# Altium integrated library Analog Devices Switches and Multiplexers Analog Switches.IntLib: 575 symbols (part 4 of 23)
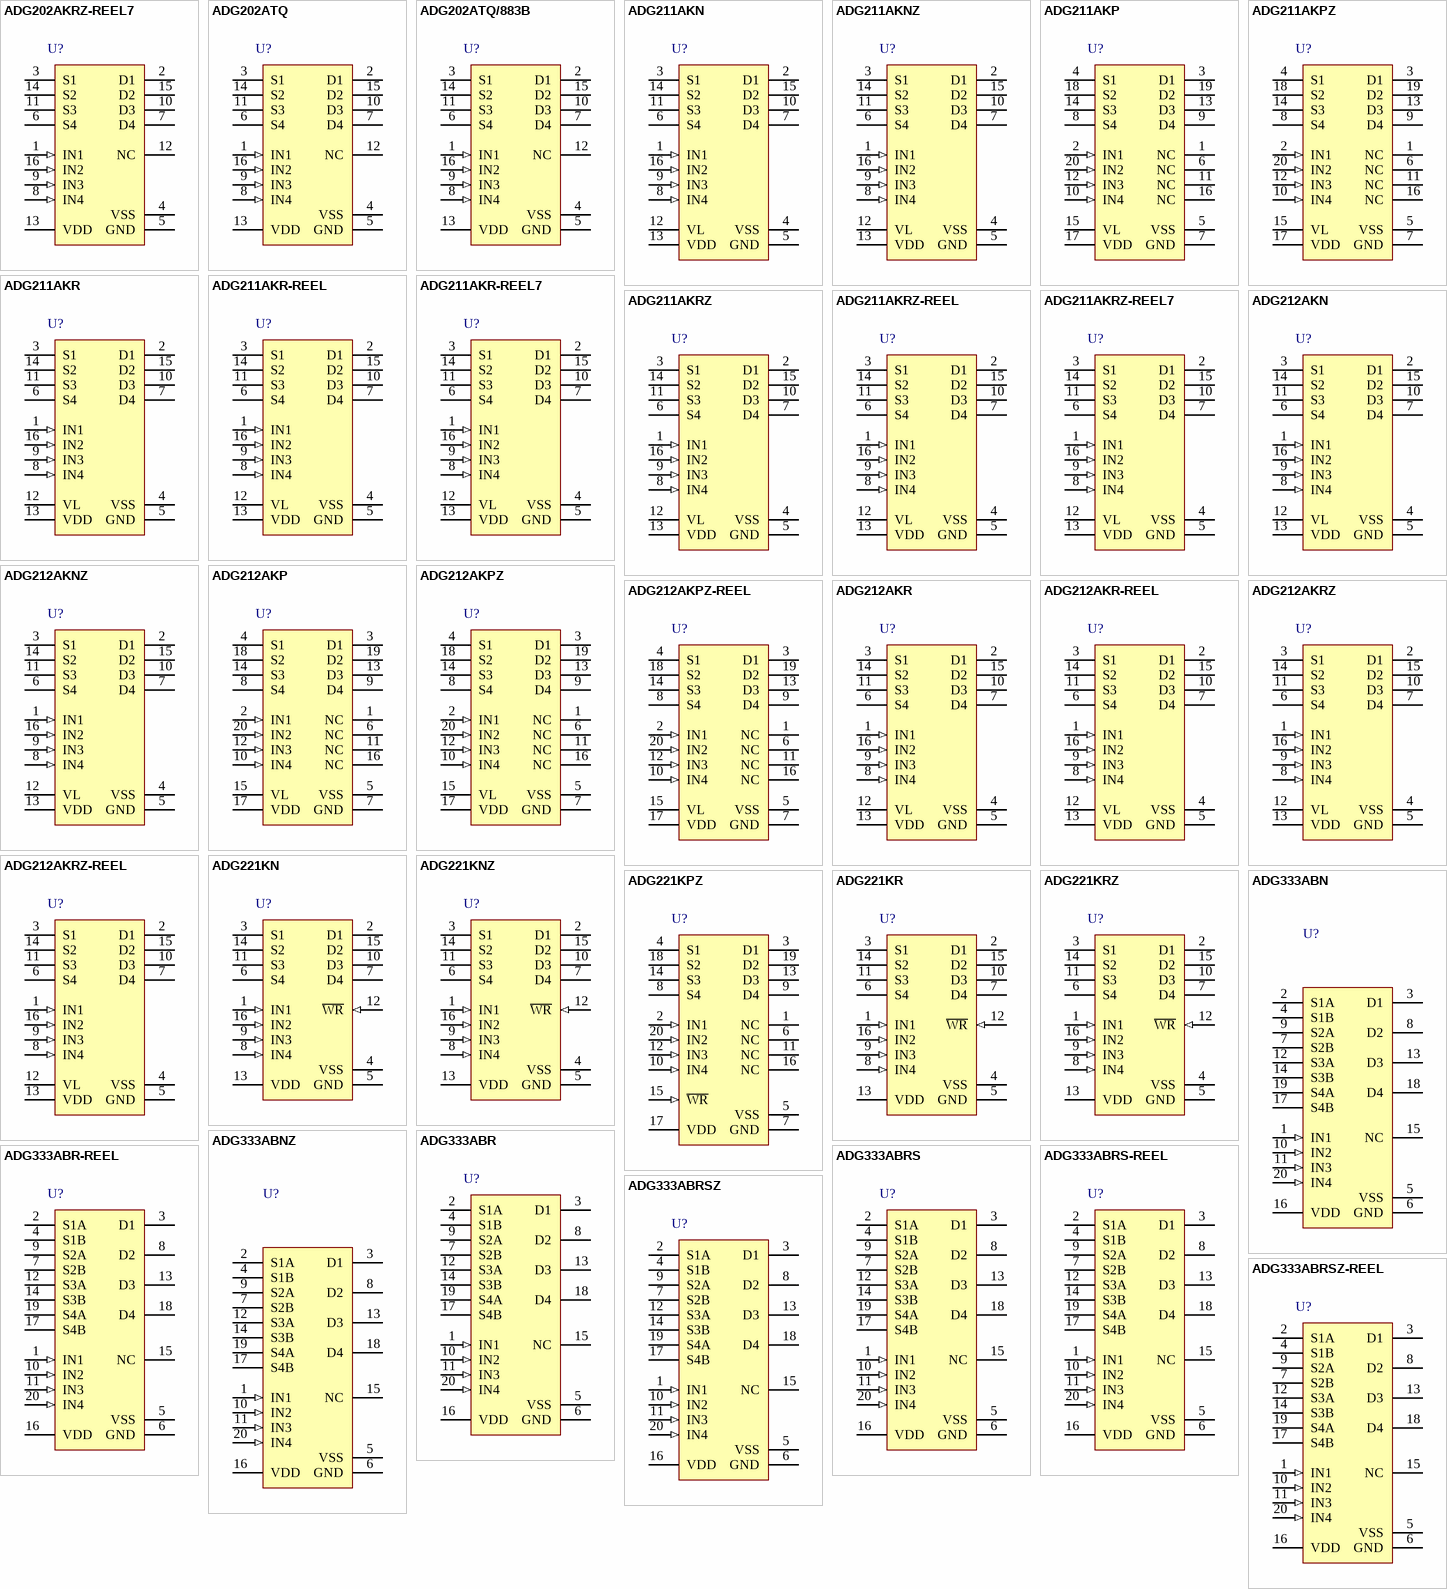
[diagram p18: symbols ADG202AKRZ-REEL7 to ADG333ABRSZ-REEL]

## ADG221KRZ
designator U?
LC2MOS Quad SPST Switches, 60 Ohm Ron, 16-pin SOIC (R-16), Tube; Manufacturer: Analog Devices; PartNumber: ADG221KRZ; # Sw Functions: 4; Max Neg Supply: -15V; Max Pos Supply: +15V; Ron (ohms): 60; DatasheetVersion: Rev. B; PackageVersion: 060606-A, 06/2006; PackageReference: R-16; PackageDescription: 16-Pin Standard Small Outline Package, Body 9.9 x 3.9 mm, Pitch 1.27 mm; Supplier 1: Digi-Key; Supplier Part Number 1: ADG221KRZ-ND; Supplier 2: Farnell; Supplier Part Number 2: 1438702; Supplier 3: Newark; Supplier Part Number 3: 59K1195; Supplier 4: Mouser; Supplier Part Number 4: 584-ADG221KRZ; Configuration: SPST; Packing: Tube; Mounting Technology: Surface Mount; Code_JEDEC: MS-012-AC; ComponentLink1Description: Manufacturer URL; ComponentLink1URL: http://www.analog.com/en/index.html; ComponentLink2Description: Datasheet; ComponentLink2URL: http://www.analog.com/static/imported-files/data_sheets/ADG221_222.pdf; ComponentLink3Description: Package Specification; ComponentLink3URL: http://www.analog.com/static/imported-files/packages/PKG_PDF/SOIC_Narrow%20(R)/R_16.pdf
footprint ADI-R-16_N (SOIC, 16-Leads, Body 9.9x3.9mm, Pitch 1.27mm, IPC Medium Density)
footprint ADI-R-16_L (SOIC, 16-Leads, Body 9.9x3.9mm, Pitch 1.27mm, IPC High Density)
footprint ADI-R-16_M (SOIC, 16-Leads, Body 9.9x3.9mm, Pitch 1.27mm, IPC Low Density)
pins: 1 IN1 (in) "Logic Control Input.", 2 D1 "Drain Terminal. Can be an input or output.", 3 S1 "Source Terminal. Can be an input or output.", 4 VSS (power) "Most Negative Power Supply Potential.", 5 GND (power) "Ground (0 V) Reference.", 6 S4 "Source Terminal. Can be an input or output.", 7 D4 "Drain Terminal. Can be an input or output.", 8 IN4 (in) "Logic Control Input.", 9 IN3 (in) "Logic Control Input.", 10 D3 "Drain Terminal. Can be an input or output.", 11 S3 "Source Terminal. Can be an input or output.", 12 ~{WR} (in), 13 VDD (power) "Most Positive Power Supply Potential.", 14 S2 "Source Terminal. Can be an input or output.", 15 D2 "Drain Terminal. Can be an input or output.", 16 IN2 (in) "Logic Control Input."

## ADG333ABN
designator U?
Quad SPDT Switches, 20 Ohm Ron, 20-pin DIP (N-20), Tube; Manufacturer: Analog Devices; PartNumber: ADG333ABN; # Sw Functions: 4; Max Neg Supply: -20V; Max Pos Supply: +20V; Ron (ohms): 20, 35; t ON: 90ns, 110ns; DatasheetVersion: Rev. A; PackageVersion: 070706-A, 07/2006; PackageReference: N-20; PackageDescription: 20-Pin Plastic Dual In-Line Package, Body 26.16 X 6.35 mm, Pitch 2.54 mm; Supplier 1: Digi-Key; Supplier Part Number 1: ADG333ABN-ND; Supplier 2: Mouser; Supplier Part Number 2: 584-ADG333ABN; Configuration: SPDT; Packing: Tube; Mounting Technology: Through Hole; Code_JEDEC: MS-001; ComponentLink1Description: Manufacturer URL; ComponentLink1URL: http://www.analog.com/en/index.html; ComponentLink2Description: Datasheet; ComponentLink2URL: http://www.analog.com/static/imported-files/data_sheets/ADG333A.pdf; ComponentLink3Description: Package Specification; ComponentLink3URL: http://www.analog.com/static/imported-files/packages/50601349676519N_20.pdf
footprint ADI-N-20 (DIP, 20-Leads, Body 25.9x6.6mm, Pitch 2.54mm)
pins: 1 IN1 (in) "Logic Control Input.", 2 S1A "Source Terminal. Can be an input or output.", 3 D1 "Drain Terminal. Can be an input or output.", 4 S1B "Source Terminal. Can be an input or output.", 5 VSS (power) "Most Negative Power Supply Potential in Dual Supplies. In single-supply applications, it can be connected to ground.", 6 GND (power) "Ground (0 V) Reference.", 7 S2B "Source Terminal. Can be an input or output.", 8 D2 "Drain Terminal. Can be an input or output.", 9 S2A "Source Terminal. Can be an input or output.", 10 IN2 (in) "Logic Control Input.", 11 IN3 (in) "Logic Control Input.", 12 S3A "Source Terminal. Can be an input or output.", 13 D3 "Drain Terminal. Can be an input or output.", 14 S3B "Source Terminal. Can be an input or output.", 15 NC "No Connect.", 16 VDD (power) "Most Positive Power Supply Potential.", 17 S4B "Source Terminal. Can be an input or output.", 18 D4 "Drain Terminal. Can be an input or output.", 19 S4A "Source Terminal. Can be an input or output.", 20 IN4 (in) "Logic Control Input."

## ADG333ABNZ
designator U?
Quad SPDT Switches, 20 Ohm Ron, 20-pin DIP (N-20), Tube; Manufacturer: Analog Devices; PartNumber: ADG333ABNZ; # Sw Functions: 4; Max Neg Supply: -20V; Max Pos Supply: +20V; Ron (ohms): 20, 35; t ON: 90ns, 110ns; DatasheetVersion: Rev. A; PackageVersion: 070706-A, 07/2006; PackageReference: N-20; PackageDescription: 20-Pin Plastic Dual In-Line Package, Body 26.16 X 6.35 mm, Pitch 2.54 mm; Supplier 1: Digi-Key; Supplier Part Number 1: ADG333ABNZ-ND; Supplier 2: Farnell; Supplier Part Number 2: 1438703; Supplier 3: Newark; Supplier Part Number 3: 59K1221; Supplier 4: Mouser; Supplier Part Number 4: 584-ADG333ABNZ; Configuration: SPDT; Packing: Tube; Mounting Technology: Through Hole; Code_JEDEC: MS-001; ComponentLink1Description: Manufacturer URL; ComponentLink1URL: http://www.analog.com/en/index.html; ComponentLink2Description: Datasheet; ComponentLink2URL: http://www.analog.com/static/imported-files/data_sheets/ADG333A.pdf; ComponentLink3Description: Package Specification; ComponentLink3URL: http://www.analog.com/static/imported-files/packages/50601349676519N_20.pdf
footprint ADI-N-20 (DIP, 20-Leads, Body 25.9x6.6mm, Pitch 2.54mm)
pins: 1 IN1 (in) "Logic Control Input.", 2 S1A "Source Terminal. Can be an input or output.", 3 D1 "Drain Terminal. Can be an input or output.", 4 S1B "Source Terminal. Can be an input or output.", 5 VSS (power) "Most Negative Power Supply Potential in Dual Supplies. In single-supply applications, it can be connected to ground.", 6 GND (power) "Ground (0 V) Reference.", 7 S2B "Source Terminal. Can be an input or output.", 8 D2 "Drain Terminal. Can be an input or output.", 9 S2A "Source Terminal. Can be an input or output.", 10 IN2 (in) "Logic Control Input.", 11 IN3 (in) "Logic Control Input.", 12 S3A "Source Terminal. Can be an input or output.", 13 D3 "Drain Terminal. Can be an input or output.", 14 S3B "Source Terminal. Can be an input or output.", 15 NC "No Connect.", 16 VDD (power) "Most Positive Power Supply Potential.", 17 S4B "Source Terminal. Can be an input or output.", 18 D4 "Drain Terminal. Can be an input or output.", 19 S4A "Source Terminal. Can be an input or output.", 20 IN4 (in) "Logic Control Input."

## ADG333ABR
designator U?
Quad SPDT Switches, 20 Ohm Ron, 20-pin SOIC (RW-20), Tube; Manufacturer: Analog Devices; PartNumber: ADG333ABR; # Sw Functions: 4; Max Neg Supply: -20V; Max Pos Supply: +20V; Ron (ohms): 20, 35; t ON: 90ns, 110ns; DatasheetVersion: Rev. A; PackageVersion: 060706-A, 06/2006; PackageReference: RW-20; PackageDescription: 20-Pin Standard Small Outline Package, Body 12.8 x 7.5 mm, Pitch 1.27 mm; Supplier 1: Digi-Key; Supplier Part Number 1: ADG333ABR-ND; Supplier 2: Mouser; Supplier Part Number 2: 584-ADG333ABR; Configuration: SPDT; Packing: Tube; Mounting Technology: Surface Mount; Code_JEDEC: MS-013-AC; ComponentLink1Description: Manufacturer URL; ComponentLink1URL: http://www.analog.com/en/index.html; ComponentLink2Description: Datasheet; ComponentLink2URL: http://www.analog.com/static/imported-files/data_sheets/ADG333A.pdf; ComponentLink3Description: Package Specification; ComponentLink3URL: http://www.analog.com/static/imported-files/packages/233848RW_20.pdf
footprint ADI-RW-20_N (SOIC, 20-Leads, Body 12.8x7.5mm, Pitch 1.27mm, IPC Medium Density)
footprint ADI-RW-20_L (SOIC, 20-Leads, Body 12.8x7.5mm, Pitch 1.27mm, IPC High Density)
footprint ADI-RW-20_M (SOIC, 20-Leads, Body 12.8x7.5mm, Pitch 1.27mm, IPC Low Density)
pins: 1 IN1 (in) "Logic Control Input.", 2 S1A "Source Terminal. Can be an input or output.", 3 D1 "Drain Terminal. Can be an input or output.", 4 S1B "Source Terminal. Can be an input or output.", 5 VSS (power) "Most Negative Power Supply Potential in Dual Supplies. In single-supply applications, it can be connected to ground.", 6 GND (power) "Ground (0 V) Reference.", 7 S2B "Source Terminal. Can be an input or output.", 8 D2 "Drain Terminal. Can be an input or output.", 9 S2A "Source Terminal. Can be an input or output.", 10 IN2 (in) "Logic Control Input.", 11 IN3 (in) "Logic Control Input.", 12 S3A "Source Terminal. Can be an input or output.", 13 D3 "Drain Terminal. Can be an input or output.", 14 S3B "Source Terminal. Can be an input or output.", 15 NC "No Connect.", 16 VDD (power) "Most Positive Power Supply Potential.", 17 S4B "Source Terminal. Can be an input or output.", 18 D4 "Drain Terminal. Can be an input or output.", 19 S4A "Source Terminal. Can be an input or output.", 20 IN4 (in) "Logic Control Input."

## ADG333ABR-REEL
designator U?
Quad SPDT Switches, 20 Ohm Ron, 20-pin SOIC (RW-20), Reel; Manufacturer: Analog Devices; PartNumber: ADG333ABR-REEL; # Sw Functions: 4; Max Neg Supply: -20V; Max Pos Supply: +20V; Ron (ohms): 20, 35; t ON: 90ns, 110ns; DatasheetVersion: Rev. A; PackageVersion: 060706-A, 06/2006; PackageReference: RW-20; PackageDescription: 20-Pin Standard Small Outline Package, Body 12.8 x 7.5 mm, Pitch 1.27 mm; Supplier 1: Digi-Key; Supplier Part Number 1: ADG333ABR-REEL-ND; Supplier 2: Newark; Supplier Part Number 2: 09B7005; Supplier 3: Mouser; Supplier Part Number 3: 584-ADG333ABR-R; Configuration: SPDT; Packing: Reel; Mounting Technology: Surface Mount; Code_JEDEC: MS-013-AC; ComponentLink1Description: Manufacturer URL; ComponentLink1URL: http://www.analog.com/en/index.html; ComponentLink2Description: Datasheet; ComponentLink2URL: http://www.analog.com/static/imported-files/data_sheets/ADG333A.pdf; ComponentLink3Description: Package Specification; ComponentLink3URL: http://www.analog.com/static/imported-files/packages/233848RW_20.pdf
footprint ADI-RW-20_N (SOIC, 20-Leads, Body 12.8x7.5mm, Pitch 1.27mm, IPC Medium Density)
footprint ADI-RW-20_L (SOIC, 20-Leads, Body 12.8x7.5mm, Pitch 1.27mm, IPC High Density)
footprint ADI-RW-20_M (SOIC, 20-Leads, Body 12.8x7.5mm, Pitch 1.27mm, IPC Low Density)
pins: 1 IN1 (in) "Logic Control Input.", 2 S1A "Source Terminal. Can be an input or output.", 3 D1 "Drain Terminal. Can be an input or output.", 4 S1B "Source Terminal. Can be an input or output.", 5 VSS (power) "Most Negative Power Supply Potential in Dual Supplies. In single-supply applications, it can be connected to ground.", 6 GND (power) "Ground (0 V) Reference.", 7 S2B "Source Terminal. Can be an input or output.", 8 D2 "Drain Terminal. Can be an input or output.", 9 S2A "Source Terminal. Can be an input or output.", 10 IN2 (in) "Logic Control Input.", 11 IN3 (in) "Logic Control Input.", 12 S3A "Source Terminal. Can be an input or output.", 13 D3 "Drain Terminal. Can be an input or output.", 14 S3B "Source Terminal. Can be an input or output.", 15 NC "No Connect.", 16 VDD (power) "Most Positive Power Supply Potential.", 17 S4B "Source Terminal. Can be an input or output.", 18 D4 "Drain Terminal. Can be an input or output.", 19 S4A "Source Terminal. Can be an input or output.", 20 IN4 (in) "Logic Control Input."

## ADG333ABRS
designator U?
Quad SPDT Switches, 20 Ohm Ron, 20-pin SOP (RS-20), Tube; Manufacturer: Analog Devices; PartNumber: ADG333ABRS; # Sw Functions: 4; Max Neg Supply: -20V; Max Pos Supply: +20V; Ron (ohms): 20, 35; t ON: 90ns, 110ns; DatasheetVersion: Rev. A; PackageVersion: Mar-03; PackageReference: RS-20; PackageDescription: 20-Pin Shrink Small Outline Package, Body 7.2 x 5.3 mm, Pitch 0.65 mm; Supplier 1: Digi-Key; Supplier Part Number 1: ADG333ABRS-ND; Supplier 2: Mouser; Supplier Part Number 2: 584-ADG333ABRS; Configuration: SPDT; Packing: Tube; Mounting Technology: Surface Mount; Code_JEDEC: MO-150AE; ComponentLink1Description: Manufacturer URL; ComponentLink1URL: http://www.analog.com/en/index.html; ComponentLink2Description: Datasheet; ComponentLink2URL: http://www.analog.com/static/imported-files/data_sheets/ADG333A.pdf; ComponentLink3Description: Package Specification; ComponentLink3URL: http://www.analog.com/static/imported-files/packages/318405805657546556503576154334802686596RS_20.pdf
footprint ADI-RS-20_N (SOP, 20-Leads, Body 7.2x5.3mm, Pitch 0.65mm, IPC Medium Density)
footprint ADI-RS-20_L (SOP, 20-Leads, Body 7.2x5.3mm, Pitch 0.65mm, IPC High Density)
footprint ADI-RS-20_M (SOP, 20-Leads, Body 7.2x5.3mm, Pitch 0.65mm, IPC Low Density)
pins: 1 IN1 (in) "Logic Control Input.", 2 S1A "Source Terminal. Can be an input or output.", 3 D1 "Drain Terminal. Can be an input or output.", 4 S1B "Source Terminal. Can be an input or output.", 5 VSS (power) "Most Negative Power Supply Potential in Dual Supplies. In single-supply applications, it can be connected to ground.", 6 GND (power) "Ground (0 V) Reference.", 7 S2B "Source Terminal. Can be an input or output.", 8 D2 "Drain Terminal. Can be an input or output.", 9 S2A "Source Terminal. Can be an input or output.", 10 IN2 (in) "Logic Control Input.", 11 IN3 (in) "Logic Control Input.", 12 S3A "Source Terminal. Can be an input or output.", 13 D3 "Drain Terminal. Can be an input or output.", 14 S3B "Source Terminal. Can be an input or output.", 15 NC "No Connect.", 16 VDD (power) "Most Positive Power Supply Potential.", 17 S4B "Source Terminal. Can be an input or output.", 18 D4 "Drain Terminal. Can be an input or output.", 19 S4A "Source Terminal. Can be an input or output.", 20 IN4 (in) "Logic Control Input."

## ADG333ABRS-REEL
designator U?
Quad SPDT Switches, 20 Ohm Ron, 20-pin SOP (RS-20), Reel; Manufacturer: Analog Devices; PartNumber: ADG333ABRS-REEL; # Sw Functions: 4; Max Neg Supply: -20V; Max Pos Supply: +20V; Ron (ohms): 20, 35; t ON: 90ns, 110ns; DatasheetVersion: Rev. A; PackageVersion: Mar-03; PackageReference: RS-20; PackageDescription: 20-Pin Shrink Small Outline Package, Body 7.2 x 5.3 mm, Pitch 0.65 mm; Supplier 1: Digi-Key; Supplier Part Number 1: ADG333ABRS-REEL-ND; Supplier 2: Newark; Supplier Part Number 2: 09B7006; Supplier 3: Mouser; Supplier Part Number 3: 584-ADG333ABRS-R; Configuration: SPDT; Packing: Reel; Mounting Technology: Surface Mount; Code_JEDEC: MO-150AE; ComponentLink1Description: Manufacturer URL; ComponentLink1URL: http://www.analog.com/en/index.html; ComponentLink2Description: Datasheet; ComponentLink2URL: http://www.analog.com/static/imported-files/data_sheets/ADG333A.pdf; ComponentLink3Description: Package Specification; ComponentLink3URL: http://www.analog.com/static/imported-files/packages/318405805657546556503576154334802686596RS_20.pdf
footprint ADI-RS-20_N (SOP, 20-Leads, Body 7.2x5.3mm, Pitch 0.65mm, IPC Medium Density)
footprint ADI-RS-20_L (SOP, 20-Leads, Body 7.2x5.3mm, Pitch 0.65mm, IPC High Density)
footprint ADI-RS-20_M (SOP, 20-Leads, Body 7.2x5.3mm, Pitch 0.65mm, IPC Low Density)
pins: 1 IN1 (in) "Logic Control Input.", 2 S1A "Source Terminal. Can be an input or output.", 3 D1 "Drain Terminal. Can be an input or output.", 4 S1B "Source Terminal. Can be an input or output.", 5 VSS (power) "Most Negative Power Supply Potential in Dual Supplies. In single-supply applications, it can be connected to ground.", 6 GND (power) "Ground (0 V) Reference.", 7 S2B "Source Terminal. Can be an input or output.", 8 D2 "Drain Terminal. Can be an input or output.", 9 S2A "Source Terminal. Can be an input or output.", 10 IN2 (in) "Logic Control Input.", 11 IN3 (in) "Logic Control Input.", 12 S3A "Source Terminal. Can be an input or output.", 13 D3 "Drain Terminal. Can be an input or output.", 14 S3B "Source Terminal. Can be an input or output.", 15 NC "No Connect.", 16 VDD (power) "Most Positive Power Supply Potential.", 17 S4B "Source Terminal. Can be an input or output.", 18 D4 "Drain Terminal. Can be an input or output.", 19 S4A "Source Terminal. Can be an input or output.", 20 IN4 (in) "Logic Control Input."

## ADG333ABRSZ
designator U?
Quad SPDT Switches, 20 Ohm Ron, 20-pin SOP (RS-20), Tube; Manufacturer: Analog Devices; PartNumber: ADG333ABRSZ; # Sw Functions: 4; Max Neg Supply: -20V; Max Pos Supply: +20V; Ron (ohms): 20, 35; t ON: 90ns, 110ns; DatasheetVersion: Rev. A; PackageVersion: Mar-03; PackageReference: RS-20; PackageDescription: 20-Pin Shrink Small Outline Package, Body 7.2 x 5.3 mm, Pitch 0.65 mm; Supplier 1: Digi-Key; Supplier Part Number 1: ADG333ABRSZ-ND; Supplier 2: Farnell; Supplier Part Number 2: 1661017; Supplier 3: Newark; Supplier Part Number 3: 59K1222; Supplier 4: Mouser; Supplier Part Number 4: 584-ADG333ABRSZ; Configuration: SPDT; Packing: Tube; Mounting Technology: Surface Mount; Code_JEDEC: MO-150AE; ComponentLink1Description: Manufacturer URL; ComponentLink1URL: http://www.analog.com/en/index.html; ComponentLink2Description: Datasheet; ComponentLink2URL: http://www.analog.com/static/imported-files/data_sheets/ADG333A.pdf; ComponentLink3Description: Package Specification; ComponentLink3URL: http://www.analog.com/static/imported-files/packages/318405805657546556503576154334802686596RS_20.pdf
footprint ADI-RS-20_N (SOP, 20-Leads, Body 7.2x5.3mm, Pitch 0.65mm, IPC Medium Density)
footprint ADI-RS-20_L (SOP, 20-Leads, Body 7.2x5.3mm, Pitch 0.65mm, IPC High Density)
footprint ADI-RS-20_M (SOP, 20-Leads, Body 7.2x5.3mm, Pitch 0.65mm, IPC Low Density)
pins: 1 IN1 (in) "Logic Control Input.", 2 S1A "Source Terminal. Can be an input or output.", 3 D1 "Drain Terminal. Can be an input or output.", 4 S1B "Source Terminal. Can be an input or output.", 5 VSS (power) "Most Negative Power Supply Potential in Dual Supplies. In single-supply applications, it can be connected to ground.", 6 GND (power) "Ground (0 V) Reference.", 7 S2B "Source Terminal. Can be an input or output.", 8 D2 "Drain Terminal. Can be an input or output.", 9 S2A "Source Terminal. Can be an input or output.", 10 IN2 (in) "Logic Control Input.", 11 IN3 (in) "Logic Control Input.", 12 S3A "Source Terminal. Can be an input or output.", 13 D3 "Drain Terminal. Can be an input or output.", 14 S3B "Source Terminal. Can be an input or output.", 15 NC "No Connect.", 16 VDD (power) "Most Positive Power Supply Potential.", 17 S4B "Source Terminal. Can be an input or output.", 18 D4 "Drain Terminal. Can be an input or output.", 19 S4A "Source Terminal. Can be an input or output.", 20 IN4 (in) "Logic Control Input."

## ADG333ABRSZ-REEL
designator U?
Quad SPDT Switches, 20 Ohm Ron, 20-pin SOP (RS-20), Reel; Manufacturer: Analog Devices; PartNumber: ADG333ABRSZ-REEL; # Sw Functions: 4; Max Neg Supply: -20V; Max Pos Supply: +20V; Ron (ohms): 20, 35; t ON: 90ns, 110ns; DatasheetVersion: Rev. A; PackageVersion: Mar-03; PackageReference: RS-20; PackageDescription: 20-Pin Shrink Small Outline Package, Body 7.2 x 5.3 mm, Pitch 0.65 mm; Supplier 1: Digi-Key; Supplier Part Number 1: ADG333ABRSZ-REELTR-ND; Supplier 2: Digi-Key; Supplier Part Number 2: ADG333ABRSZ-REELCT-ND; Supplier 3: Digi-Key; Supplier Part Number 3: ADG333ABRSZ-REELDKR-ND; Supplier 4: Newark; Supplier Part Number 4: 59K1223; Supplier 5: Mouser; Supplier Part Number 5: 584-ADG333ABRSZ-R; Configuration: SPDT; Packing: Reel; Mounting Technology: Surface Mount; Code_JEDEC: MO-150AE; ComponentLink1Description: Manufacturer URL; ComponentLink1URL: http://www.analog.com/en/index.html; ComponentLink2Description: Datasheet; ComponentLink2URL: http://www.analog.com/static/imported-files/data_sheets/ADG333A.pdf; ComponentLink3Description: Package Specification; ComponentLink3URL: http://www.analog.com/static/imported-files/packages/318405805657546556503576154334802686596RS_20.pdf
footprint ADI-RS-20_N (SOP, 20-Leads, Body 7.2x5.3mm, Pitch 0.65mm, IPC Medium Density)
footprint ADI-RS-20_L (SOP, 20-Leads, Body 7.2x5.3mm, Pitch 0.65mm, IPC High Density)
footprint ADI-RS-20_M (SOP, 20-Leads, Body 7.2x5.3mm, Pitch 0.65mm, IPC Low Density)
pins: 1 IN1 (in) "Logic Control Input.", 2 S1A "Source Terminal. Can be an input or output.", 3 D1 "Drain Terminal. Can be an input or output.", 4 S1B "Source Terminal. Can be an input or output.", 5 VSS (power) "Most Negative Power Supply Potential in Dual Supplies. In single-supply applications, it can be connected to ground.", 6 GND (power) "Ground (0 V) Reference.", 7 S2B "Source Terminal. Can be an input or output.", 8 D2 "Drain Terminal. Can be an input or output.", 9 S2A "Source Terminal. Can be an input or output.", 10 IN2 (in) "Logic Control Input.", 11 IN3 (in) "Logic Control Input.", 12 S3A "Source Terminal. Can be an input or output.", 13 D3 "Drain Terminal. Can be an input or output.", 14 S3B "Source Terminal. Can be an input or output.", 15 NC "No Connect.", 16 VDD (power) "Most Positive Power Supply Potential.", 17 S4B "Source Terminal. Can be an input or output.", 18 D4 "Drain Terminal. Can be an input or output.", 19 S4A "Source Terminal. Can be an input or output.", 20 IN4 (in) "Logic Control Input."

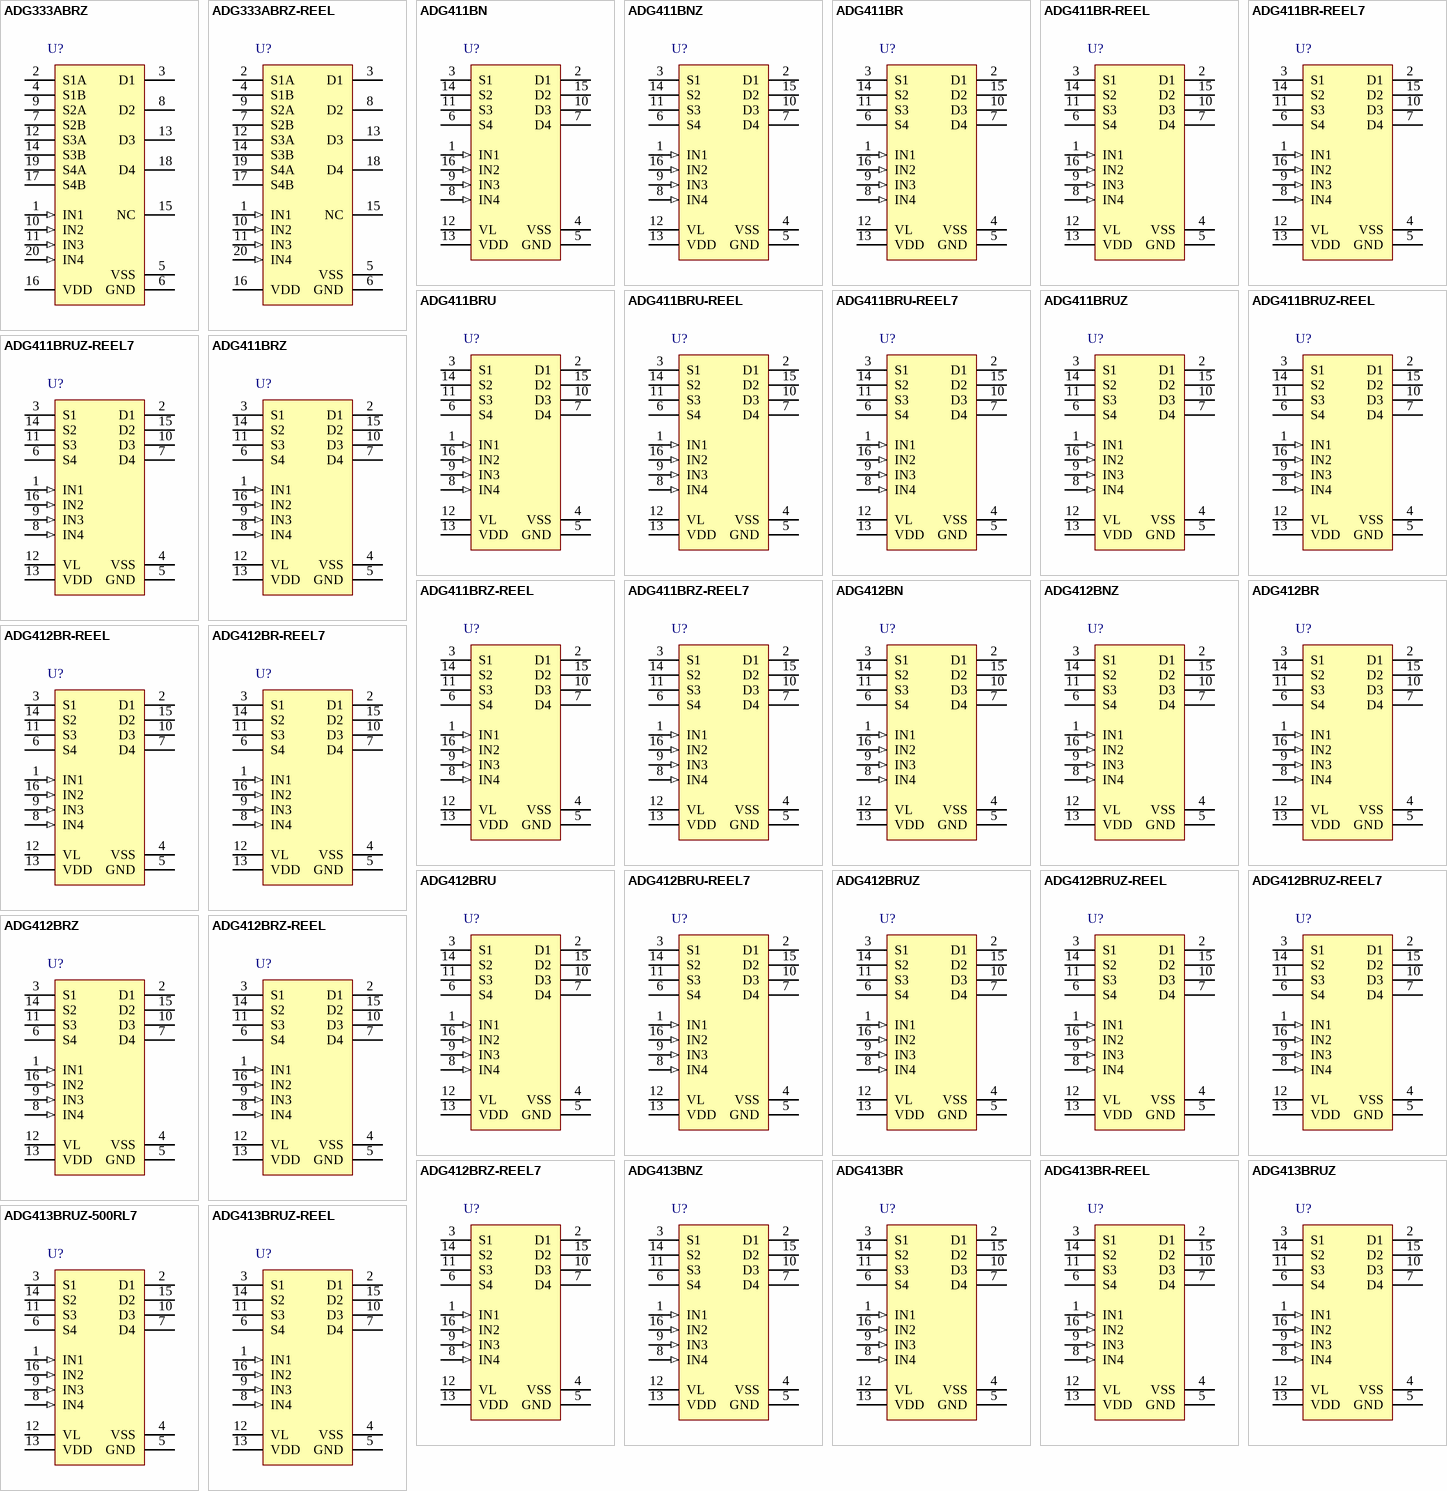
[diagram p3: symbols ADG333ABRZ to ADG413BRUZ-REEL]

## ADG333ABRZ
designator U?
Quad SPDT Switches, 20 Ohm Ron, 20-pin SOIC (RW-20), Tube; Manufacturer: Analog Devices; PartNumber: ADG333ABRZ; # Sw Functions: 4; Max Neg Supply: -20V; Max Pos Supply: +20V; Ron (ohms): 20, 35; t ON: 90ns, 110ns; DatasheetVersion: Rev. A; PackageVersion: 060706-A, 06/2006; PackageReference: RW-20; PackageDescription: 20-Pin Standard Small Outline Package, Body 12.8 x 7.5 mm, Pitch 1.27 mm; Supplier 1: Digi-Key; Supplier Part Number 1: ADG333ABRZ-ND; Supplier 2: Farnell; Supplier Part Number 2: 2305647; Supplier 3: Newark; Supplier Part Number 3: 59K1224; Supplier 4: Mouser; Supplier Part Number 4: 584-ADG333ABRZ; Configuration: SPDT; Packing: Tube; Mounting Technology: Surface Mount; Code_JEDEC: MS-013-AC; ComponentLink1Description: Manufacturer URL; ComponentLink1URL: http://www.analog.com/en/index.html; ComponentLink2Description: Datasheet; ComponentLink2URL: http://www.analog.com/static/imported-files/data_sheets/ADG333A.pdf; ComponentLink3Description: Package Specification; ComponentLink3URL: http://www.analog.com/static/imported-files/packages/233848RW_20.pdf
footprint ADI-RW-20_N (SOIC, 20-Leads, Body 12.8x7.5mm, Pitch 1.27mm, IPC Medium Density)
footprint ADI-RW-20_L (SOIC, 20-Leads, Body 12.8x7.5mm, Pitch 1.27mm, IPC High Density)
footprint ADI-RW-20_M (SOIC, 20-Leads, Body 12.8x7.5mm, Pitch 1.27mm, IPC Low Density)
pins: 1 IN1 (in) "Logic Control Input.", 2 S1A "Source Terminal. Can be an input or output.", 3 D1 "Drain Terminal. Can be an input or output.", 4 S1B "Source Terminal. Can be an input or output.", 5 VSS (power) "Most Negative Power Supply Potential in Dual Supplies. In single-supply applications, it can be connected to ground.", 6 GND (power) "Ground (0 V) Reference.", 7 S2B "Source Terminal. Can be an input or output.", 8 D2 "Drain Terminal. Can be an input or output.", 9 S2A "Source Terminal. Can be an input or output.", 10 IN2 (in) "Logic Control Input.", 11 IN3 (in) "Logic Control Input.", 12 S3A "Source Terminal. Can be an input or output.", 13 D3 "Drain Terminal. Can be an input or output.", 14 S3B "Source Terminal. Can be an input or output.", 15 NC "No Connect.", 16 VDD (power) "Most Positive Power Supply Potential.", 17 S4B "Source Terminal. Can be an input or output.", 18 D4 "Drain Terminal. Can be an input or output.", 19 S4A "Source Terminal. Can be an input or output.", 20 IN4 (in) "Logic Control Input."

## ADG333ABRZ-REEL
designator U?
Quad SPDT Switches, 20 Ohm Ron, 20-pin SOIC (RW-20), Reel; Manufacturer: Analog Devices; PartNumber: ADG333ABRZ-REEL; # Sw Functions: 4; Max Neg Supply: -20V; Max Pos Supply: +20V; Ron (ohms): 20, 35; t ON: 90ns, 110ns; DatasheetVersion: Rev. A; PackageVersion: 060706-A, 06/2006; PackageReference: RW-20; PackageDescription: 20-Pin Standard Small Outline Package, Body 12.8 x 7.5 mm, Pitch 1.27 mm; Supplier 1: Digi-Key; Supplier Part Number 1: ADG333ABRZ-REELTR-ND; Supplier 2: Digi-Key; Supplier Part Number 2: ADG333ABRZ-REELCT-ND; Supplier 3: Digi-Key; Supplier Part Number 3: ADG333ABRZ-REELDKR-ND; Supplier 4: Newark; Supplier Part Number 4: 59K1225; Supplier 5: Mouser; Supplier Part Number 5: 584-ADG333ABRZ-R; Configuration: SPDT; Packing: Reel; Mounting Technology: Surface Mount; Code_JEDEC: MS-013-AC; ComponentLink1Description: Manufacturer URL; ComponentLink1URL: http://www.analog.com/en/index.html; ComponentLink2Description: Datasheet; ComponentLink2URL: http://www.analog.com/static/imported-files/data_sheets/ADG333A.pdf; ComponentLink3Description: Package Specification; ComponentLink3URL: http://www.analog.com/static/imported-files/packages/233848RW_20.pdf
footprint ADI-RW-20_N (SOIC, 20-Leads, Body 12.8x7.5mm, Pitch 1.27mm, IPC Medium Density)
footprint ADI-RW-20_L (SOIC, 20-Leads, Body 12.8x7.5mm, Pitch 1.27mm, IPC High Density)
footprint ADI-RW-20_M (SOIC, 20-Leads, Body 12.8x7.5mm, Pitch 1.27mm, IPC Low Density)
pins: 1 IN1 (in) "Logic Control Input.", 2 S1A "Source Terminal. Can be an input or output.", 3 D1 "Drain Terminal. Can be an input or output.", 4 S1B "Source Terminal. Can be an input or output.", 5 VSS (power) "Most Negative Power Supply Potential in Dual Supplies. In single-supply applications, it can be connected to ground.", 6 GND (power) "Ground (0 V) Reference.", 7 S2B "Source Terminal. Can be an input or output.", 8 D2 "Drain Terminal. Can be an input or output.", 9 S2A "Source Terminal. Can be an input or output.", 10 IN2 (in) "Logic Control Input.", 11 IN3 (in) "Logic Control Input.", 12 S3A "Source Terminal. Can be an input or output.", 13 D3 "Drain Terminal. Can be an input or output.", 14 S3B "Source Terminal. Can be an input or output.", 15 NC "No Connect.", 16 VDD (power) "Most Positive Power Supply Potential.", 17 S4B "Source Terminal. Can be an input or output.", 18 D4 "Drain Terminal. Can be an input or output.", 19 S4A "Source Terminal. Can be an input or output.", 20 IN4 (in) "Logic Control Input."

## ADG411BN
designator U?
LC2MOS Precision Quad SPST Switches, 25 Ohm Ron, 16-pin DIP (N-16), Tube; Manufacturer: Analog Devices; PartNumber: ADG411BN; # Sw Functions: 4; Max Neg Supply: -16.5V; Max Pos Supply: +16.5V; Ron (ohms): 25, 40; t ON: 110ns, 175ns; DatasheetVersion: Rev. D; PackageVersion: 070706-A, 07/2006; PackageReference: N-16; PackageDescription: 16-Pin Plastic Dual In-Line Package, Row spacing 7.62 mm, Pitch 2.54 mm; Supplier 1: Digi-Key; Supplier Part Number 1: ADG411BN-ND; Supplier 2: Newark; Supplier Part Number 2: 05F6198; Configuration: SPST; Packing: Tube; Mounting Technology: Through Hole; Code_JEDEC: MS-001; ComponentLink1Description: Manufacturer URL; ComponentLink1URL: http://www.analog.com/en/index.html; ComponentLink2Description: Datasheet; ComponentLink2URL: http://www.analog.com/static/imported-files/data_sheets/ADG411_412_413.pdf; ComponentLink3Description: Package Specification; ComponentLink3URL: http://www.analog.com/static/imported-files/packages/44768431550332N_16.pdf
footprint ADI-N-16 (DIP, 16-Leads, Body 20.07x6.6mm, Pitch 2.54mm)
pins: 1 IN1 (in) "Logic Control Input.", 2 D1 "Drain Terminal. Can be an input or output.", 3 S1 "Source Terminal. Can be an input or output.", 4 VSS (power) "Most Negative Power Supply Potential in Dual Supplies. In single supply applications, it may be connected to GND.", 5 GND (power) "Ground (0 V) Reference.", 6 S4 "Source Terminal. Can be an input or output.", 7 D4 "Drain Terminal. Can be an input or output.", 8 IN4 (in) "Logic Control Input.", 9 IN3 (in) "Logic Control Input.", 10 D3 "Drain Terminal. Can be an input or output.", 11 S3 "Source Terminal. Can be an input or output.", 12 VL (power) "Logic Power Supply (5 V).", 13 VDD (power) "Most Positive Power Supply Potential.", 14 S2 "Source Terminal. Can be an input or output.", 15 D2 "Drain Terminal. Can be an input or output.", 16 IN2 (in) "Logic Control Input."

## ADG411BNZ
designator U?
LC2MOS Precision Quad SPST Switches, 25 Ohm Ron, 16-pin DIP (N-16), Tube; Manufacturer: Analog Devices; PartNumber: ADG411BNZ; # Sw Functions: 4; Max Neg Supply: -16.5V; Max Pos Supply: +16.5V; Ron (ohms): 25, 40; t ON: 110ns, 175ns; DatasheetVersion: Rev. D; PackageVersion: 070706-A, 07/2006; PackageReference: N-16; PackageDescription: 16-Pin Plastic Dual In-Line Package, Row spacing 7.62 mm, Pitch 2.54 mm; Supplier 1: Digi-Key; Supplier Part Number 1: ADG411BNZ-ND; Supplier 2: Farnell; Supplier Part Number 2: 2305648; Supplier 3: Newark; Supplier Part Number 3: 28M3601; Supplier 4: Mouser; Supplier Part Number 4: 584-ADG411BNZ; Configuration: SPST; Packing: Tube; Mounting Technology: Through Hole; Code_JEDEC: MS-001; ComponentLink1Description: Manufacturer URL; ComponentLink1URL: http://www.analog.com/en/index.html; ComponentLink2Description: Datasheet; ComponentLink2URL: http://www.analog.com/static/imported-files/data_sheets/ADG411_412_413.pdf; ComponentLink3Description: Package Specification; ComponentLink3URL: http://www.analog.com/static/imported-files/packages/44768431550332N_16.pdf
footprint ADI-N-16 (DIP, 16-Leads, Body 20.07x6.6mm, Pitch 2.54mm)
pins: 1 IN1 (in) "Logic Control Input.", 2 D1 "Drain Terminal. Can be an input or output.", 3 S1 "Source Terminal. Can be an input or output.", 4 VSS (power) "Most Negative Power Supply Potential in Dual Supplies. In single supply applications, it may be connected to GND.", 5 GND (power) "Ground (0 V) Reference.", 6 S4 "Source Terminal. Can be an input or output.", 7 D4 "Drain Terminal. Can be an input or output.", 8 IN4 (in) "Logic Control Input.", 9 IN3 (in) "Logic Control Input.", 10 D3 "Drain Terminal. Can be an input or output.", 11 S3 "Source Terminal. Can be an input or output.", 12 VL (power) "Logic Power Supply (5 V).", 13 VDD (power) "Most Positive Power Supply Potential.", 14 S2 "Source Terminal. Can be an input or output.", 15 D2 "Drain Terminal. Can be an input or output.", 16 IN2 (in) "Logic Control Input."

## ADG411BR
designator U?
LC2MOS Precision Quad SPST Switches, 25 Ohm Ron, 16-pin SOIC (R-16), Tube; Manufacturer: Analog Devices; PartNumber: ADG411BR; # Sw Functions: 4; Max Neg Supply: -16.5V; Max Pos Supply: +16.5V; Ron (ohms): 25, 40; t ON: 110ns, 175ns; DatasheetVersion: Rev. D; PackageVersion: 060606-A, 06/2006; PackageReference: R-16; PackageDescription: 16-Pin Standard Small Outline Package, Body 9.9 x 3.9 mm, Pitch 1.27 mm; Supplier 1: Digi-Key; Supplier Part Number 1: ADG411BR-ND; Supplier 2: Mouser; Supplier Part Number 2: 584-ADG411BR; Configuration: SPST; Packing: Tube; Mounting Technology: Surface Mount; Code_JEDEC: MS-012-AC; ComponentLink1Description: Manufacturer URL; ComponentLink1URL: http://www.analog.com/en/index.html; ComponentLink2Description: Datasheet; ComponentLink2URL: http://www.analog.com/static/imported-files/data_sheets/ADG411_412_413.pdf; ComponentLink3Description: Package Specification; ComponentLink3URL: http://www.analog.com/static/imported-files/packages/PKG_PDF/SOIC_Narrow%20(R)/R_16.pdf
footprint ADI-R-16_N (SOIC, 16-Leads, Body 9.9x3.9mm, Pitch 1.27mm, IPC Medium Density)
footprint ADI-R-16_L (SOIC, 16-Leads, Body 9.9x3.9mm, Pitch 1.27mm, IPC High Density)
footprint ADI-R-16_M (SOIC, 16-Leads, Body 9.9x3.9mm, Pitch 1.27mm, IPC Low Density)
pins: 1 IN1 (in) "Logic Control Input.", 2 D1 "Drain Terminal. Can be an input or output.", 3 S1 "Source Terminal. Can be an input or output.", 4 VSS (power) "Most Negative Power Supply Potential in Dual Supplies. In single supply applications, it may be  connected to GND.", 5 GND (power) "Ground (0 V) Reference.", 6 S4 "Source Terminal. Can be an input or output.", 7 D4 "Drain Terminal. Can be an input or output.", 8 IN4 (in) "Logic Control Input.", 9 IN3 (in) "Logic Control Input.", 10 D3 "Drain Terminal. Can be an input or output.", 11 S3 "Source Terminal. Can be an input or output.", 12 VL (power) "Logic Power Supply (5 V).", 13 VDD (power) "Most Positive Power Supply Potential.", 14 S2 "Source Terminal. Can be an input or output.", 15 D2 "Drain Terminal. Can be an input or output.", 16 IN2 (in) "Logic Control Input."

## ADG411BR-REEL
designator U?
LC2MOS Precision Quad SPST Switches, 25 Ohm Ron, 16-pin SOIC (R-16), Reel; Manufacturer: Analog Devices; PartNumber: ADG411BR-REEL; # Sw Functions: 4; Max Neg Supply: -16.5V; Max Pos Supply: +16.5V; Ron (ohms): 25, 40; t ON: 110ns, 175ns; DatasheetVersion: Rev. D; PackageVersion: 060606-A, 06/2006; PackageReference: R-16; PackageDescription: 16-Pin Standard Small Outline Package, Body 9.9 x 3.9 mm, Pitch 1.27 mm; Configuration: SPST; Packing: Reel; Mounting Technology: Surface Mount; Code_JEDEC: MS-012-AC; ComponentLink1Description: Manufacturer URL; ComponentLink1URL: http://www.analog.com/en/index.html; ComponentLink2Description: Datasheet; ComponentLink2URL: http://www.analog.com/static/imported-files/data_sheets/ADG411_412_413.pdf; ComponentLink3Description: Package Specification; ComponentLink3URL: http://www.analog.com/static/imported-files/packages/PKG_PDF/SOIC_Narrow%20(R)/R_16.pdf
footprint ADI-R-16_N (SOIC, 16-Leads, Body 9.9x3.9mm, Pitch 1.27mm, IPC Medium Density)
footprint ADI-R-16_L (SOIC, 16-Leads, Body 9.9x3.9mm, Pitch 1.27mm, IPC High Density)
footprint ADI-R-16_M (SOIC, 16-Leads, Body 9.9x3.9mm, Pitch 1.27mm, IPC Low Density)
pins: 1 IN1 (in) "Logic Control Input.", 2 D1 "Drain Terminal. Can be an input or output.", 3 S1 "Source Terminal. Can be an input or output.", 4 VSS (power) "Most Negative Power Supply Potential in Dual Supplies. In single supply applications, it may be  connected to GND.", 5 GND (power) "Ground (0 V) Reference.", 6 S4 "Source Terminal. Can be an input or output.", 7 D4 "Drain Terminal. Can be an input or output.", 8 IN4 (in) "Logic Control Input.", 9 IN3 (in) "Logic Control Input.", 10 D3 "Drain Terminal. Can be an input or output.", 11 S3 "Source Terminal. Can be an input or output.", 12 VL (power) "Logic Power Supply (5 V).", 13 VDD (power) "Most Positive Power Supply Potential.", 14 S2 "Source Terminal. Can be an input or output.", 15 D2 "Drain Terminal. Can be an input or output.", 16 IN2 (in) "Logic Control Input."

## ADG411BR-REEL7
designator U?
LC2MOS Precision Quad SPST Switches, 25 Ohm Ron, 16-pin SOIC (R-16), Reel; Manufacturer: Analog Devices; PartNumber: ADG411BR-REEL7; # Sw Functions: 4; Max Neg Supply: -16.5V; Max Pos Supply: +16.5V; Ron (ohms): 25, 40; t ON: 110ns, 175ns; DatasheetVersion: Rev. D; PackageVersion: 060606-A, 06/2006; PackageReference: R-16; PackageDescription: 16-Pin Standard Small Outline Package, Body 9.9 x 3.9 mm, Pitch 1.27 mm; Supplier 1: Digi-Key; Supplier Part Number 1: ADG411BR-REEL7-ND; Supplier 2: Newark; Supplier Part Number 2: 09B7018; Supplier 3: Mouser; Supplier Part Number 3: 584-ADG411BR-R7; Configuration: SPST; Packing: Reel; Mounting Technology: Surface Mount; Code_JEDEC: MS-012-AC; ComponentLink1Description: Manufacturer URL; ComponentLink1URL: http://www.analog.com/en/index.html; ComponentLink2Description: Datasheet; ComponentLink2URL: http://www.analog.com/static/imported-files/data_sheets/ADG411_412_413.pdf; ComponentLink3Description: Package Specification; ComponentLink3URL: http://www.analog.com/static/imported-files/packages/PKG_PDF/SOIC_Narrow%20(R)/R_16.pdf
footprint ADI-R-16_N (SOIC, 16-Leads, Body 9.9x3.9mm, Pitch 1.27mm, IPC Medium Density)
footprint ADI-R-16_L (SOIC, 16-Leads, Body 9.9x3.9mm, Pitch 1.27mm, IPC High Density)
footprint ADI-R-16_M (SOIC, 16-Leads, Body 9.9x3.9mm, Pitch 1.27mm, IPC Low Density)
pins: 1 IN1 (in) "Logic Control Input.", 2 D1 "Drain Terminal. Can be an input or output.", 3 S1 "Source Terminal. Can be an input or output.", 4 VSS (power) "Most Negative Power Supply Potential in Dual Supplies. In single supply applications, it may be  connected to GND.", 5 GND (power) "Ground (0 V) Reference.", 6 S4 "Source Terminal. Can be an input or output.", 7 D4 "Drain Terminal. Can be an input or output.", 8 IN4 (in) "Logic Control Input.", 9 IN3 (in) "Logic Control Input.", 10 D3 "Drain Terminal. Can be an input or output.", 11 S3 "Source Terminal. Can be an input or output.", 12 VL (power) "Logic Power Supply (5 V).", 13 VDD (power) "Most Positive Power Supply Potential.", 14 S2 "Source Terminal. Can be an input or output.", 15 D2 "Drain Terminal. Can be an input or output.", 16 IN2 (in) "Logic Control Input."

## ADG411BRU
designator U?
LC2MOS Precision Quad SPST Switches, 25 Ohm Ron, 16-pin SOP (RU-16), Tube; Manufacturer: Analog Devices; PartNumber: ADG411BRU; # Sw Functions: 4; Max Neg Supply: -16.5V; Max Pos Supply: +16.5V; Ron (ohms): 25, 40; t ON: 110ns, 175ns; DatasheetVersion: Rev. D; PackageVersion: Nov-02; PackageReference: RU-16; PackageDescription: 16-Pin Thin Shrink Small Outline Package, Body 5 x 4.4 mm, Pitch 0.65 mm; Supplier 1: Digi-Key; Supplier Part Number 1: ADG411BRU-ND; Supplier 2: Mouser; Supplier Part Number 2: 584-ADG411BRU; Configuration: SPST; Packing: Tube; Mounting Technology: Surface Mount; Code_JEDEC: MO-153AB; ComponentLink1Description: Manufacturer URL; ComponentLink1URL: http://www.analog.com/en/index.html; ComponentLink2Description: Datasheet; ComponentLink2URL: http://www.analog.com/static/imported-files/data_sheets/ADG411_412_413.pdf; ComponentLink3Description: Package Specification; ComponentLink3URL: http:/www.analog.com/static/imported-files/packages/36244347913743854010197452789RU16.pdf
footprint ADI-RU-16_N (SOP, 16-Leads, Body 5x4.4mm, Pitch 0.65mm, IPC Medium Density)
footprint ADI-RU-16_L (SOP, 16-Leads, Body 5x4.4mm, Pitch 0.65mm, IPC High Density)
footprint ADI-RU-16_M (SOP, 16-Leads, Body 5x4.4mm, Pitch 0.65mm, IPC Low Density)
pins: 1 IN1 (in) "Logic Control Input.", 2 D1 "Drain Terminal. Can be an input or output.", 3 S1 "Source Terminal. Can be an input or output.", 4 VSS (power) "Most Negative Power Supply Potential in Dual Supplies. In single supply applications, it may be connected to GND.", 5 GND (power) "Ground (0 V) Reference.", 6 S4 "Source Terminal. Can be an input or output.", 7 D4 "Drain Terminal. Can be an input or output.", 8 IN4 (in) "Logic Control Input.", 9 IN3 (in) "Logic Control Input.", 10 D3 "Drain Terminal. Can be an input or output.", 11 S3 "Source Terminal. Can be an input or output.", 12 VL (power) "Logic Power Supply (5 V).", 13 VDD (power) "Most Positive Power Supply Potential.", 14 S2 "Source Terminal. Can be an input or output.", 15 D2 "Drain Terminal. Can be an input or output.", 16 IN2 (in) "Logic Control Input."

## ADG411BRU-REEL
designator U?
LC2MOS Precision Quad SPST Switches, 25 Ohm Ron, 16-pin SOP (RU-16), Reel; Manufacturer: Analog Devices; PartNumber: ADG411BRU-REEL; # Sw Functions: 4; Max Neg Supply: -16.5V; Max Pos Supply: +16.5V; Ron (ohms): 25, 40; t ON: 110ns, 175ns; DatasheetVersion: Rev. D; PackageVersion: Nov-02; PackageReference: RU-16; PackageDescription: 16-Pin Thin Shrink Small Outline Package, Body 5 x 4.4 mm, Pitch 0.65 mm; Supplier 1: Digi-Key; Supplier Part Number 1: ADG411BRU-REEL-ND; Supplier 2: Newark; Supplier Part Number 2: 09B7020; Configuration: SPST; Packing: Reel; Mounting Technology: Surface Mount; Code_JEDEC: MO-153AB; ComponentLink1Description: Manufacturer URL; ComponentLink1URL: http://www.analog.com/en/index.html; ComponentLink2Description: Datasheet; ComponentLink2URL: http://www.analog.com/static/imported-files/data_sheets/ADG411_412_413.pdf; ComponentLink3Description: Package Specification; ComponentLink3URL: http:/www.analog.com/static/imported-files/packages/36244347913743854010197452789RU16.pdf
footprint ADI-RU-16_N (SOP, 16-Leads, Body 5x4.4mm, Pitch 0.65mm, IPC Medium Density)
footprint ADI-RU-16_L (SOP, 16-Leads, Body 5x4.4mm, Pitch 0.65mm, IPC High Density)
footprint ADI-RU-16_M (SOP, 16-Leads, Body 5x4.4mm, Pitch 0.65mm, IPC Low Density)
pins: 1 IN1 (in) "Logic Control Input.", 2 D1 "Drain Terminal. Can be an input or output.", 3 S1 "Source Terminal. Can be an input or output.", 4 VSS (power) "Most Negative Power Supply Potential in Dual Supplies. In single supply applications, it may be connected to GND.", 5 GND (power) "Ground (0 V) Reference.", 6 S4 "Source Terminal. Can be an input or output.", 7 D4 "Drain Terminal. Can be an input or output.", 8 IN4 (in) "Logic Control Input.", 9 IN3 (in) "Logic Control Input.", 10 D3 "Drain Terminal. Can be an input or output.", 11 S3 "Source Terminal. Can be an input or output.", 12 VL (power) "Logic Power Supply (5 V).", 13 VDD (power) "Most Positive Power Supply Potential.", 14 S2 "Source Terminal. Can be an input or output.", 15 D2 "Drain Terminal. Can be an input or output.", 16 IN2 (in) "Logic Control Input."

## ADG411BRU-REEL7
designator U?
LC2MOS Precision Quad SPST Switches, 25 Ohm Ron, 16-pin SOP (RU-16), Reel; Manufacturer: Analog Devices; PartNumber: ADG411BRU-REEL7; # Sw Functions: 4; Max Neg Supply: -16.5V; Max Pos Supply: +16.5V; Ron (ohms): 25, 40; t ON: 110ns, 175ns; DatasheetVersion: Rev. D; PackageVersion: Nov-02; PackageReference: RU-16; PackageDescription: 16-Pin Thin Shrink Small Outline Package, Body 5 x 4.4 mm, Pitch 0.65 mm; Supplier 1: Digi-Key; Supplier Part Number 1: ADG411BRU-REEL7-ND; Supplier 2: Mouser; Supplier Part Number 2: 584-ADG411BRU-R7; Configuration: SPST; Packing: Reel; Mounting Technology: Surface Mount; Code_JEDEC: MO-153AB; ComponentLink1Description: Manufacturer URL; ComponentLink1URL: http://www.analog.com/en/index.html; ComponentLink2Description: Datasheet; ComponentLink2URL: http://www.analog.com/static/imported-files/data_sheets/ADG411_412_413.pdf; ComponentLink3Description: Package Specification; ComponentLink3URL: http:/www.analog.com/static/imported-files/packages/36244347913743854010197452789RU16.pdf
footprint ADI-RU-16_N (SOP, 16-Leads, Body 5x4.4mm, Pitch 0.65mm, IPC Medium Density)
footprint ADI-RU-16_L (SOP, 16-Leads, Body 5x4.4mm, Pitch 0.65mm, IPC High Density)
footprint ADI-RU-16_M (SOP, 16-Leads, Body 5x4.4mm, Pitch 0.65mm, IPC Low Density)
pins: 1 IN1 (in) "Logic Control Input.", 2 D1 "Drain Terminal. Can be an input or output.", 3 S1 "Source Terminal. Can be an input or output.", 4 VSS (power) "Most Negative Power Supply Potential in Dual Supplies. In single supply applications, it may be connected to GND.", 5 GND (power) "Ground (0 V) Reference.", 6 S4 "Source Terminal. Can be an input or output.", 7 D4 "Drain Terminal. Can be an input or output.", 8 IN4 (in) "Logic Control Input.", 9 IN3 (in) "Logic Control Input.", 10 D3 "Drain Terminal. Can be an input or output.", 11 S3 "Source Terminal. Can be an input or output.", 12 VL (power) "Logic Power Supply (5 V).", 13 VDD (power) "Most Positive Power Supply Potential.", 14 S2 "Source Terminal. Can be an input or output.", 15 D2 "Drain Terminal. Can be an input or output.", 16 IN2 (in) "Logic Control Input."

## ADG411BRUZ
designator U?
LC2MOS Precision Quad SPST Switches, 25 Ohm Ron, 16-pin SOP (RU-16), Tube; Manufacturer: Analog Devices; PartNumber: ADG411BRUZ; # Sw Functions: 4; Max Neg Supply: -16.5V; Max Pos Supply: +16.5V; Ron (ohms): 25, 40; t ON: 110ns, 175ns; DatasheetVersion: Rev. D; PackageVersion: Nov-02; PackageReference: RU-16; PackageDescription: 16-Pin Thin Shrink Small Outline Package, Body 5 x 4.4 mm, Pitch 0.65 mm; Supplier 1: Digi-Key; Supplier Part Number 1: ADG411BRUZ-ND; Supplier 2: Newark; Supplier Part Number 2: 59K1243; Supplier 3: Mouser; Supplier Part Number 3: 584-ADG411BRUZ; Configuration: SPST; Packing: Tube; Mounting Technology: Surface Mount; Code_JEDEC: MO-153AB; ComponentLink1Description: Manufacturer URL; ComponentLink1URL: http://www.analog.com/en/index.html; ComponentLink2Description: Datasheet; ComponentLink2URL: http://www.analog.com/static/imported-files/data_sheets/ADG411_412_413.pdf; ComponentLink3Description: Package Specification; ComponentLink3URL: http:/www.analog.com/static/imported-files/packages/36244347913743854010197452789RU16.pdf
footprint ADI-RU-16_N (SOP, 16-Leads, Body 5x4.4mm, Pitch 0.65mm, IPC Medium Density)
footprint ADI-RU-16_L (SOP, 16-Leads, Body 5x4.4mm, Pitch 0.65mm, IPC High Density)
footprint ADI-RU-16_M (SOP, 16-Leads, Body 5x4.4mm, Pitch 0.65mm, IPC Low Density)
pins: 1 IN1 (in) "Logic Control Input.", 2 D1 "Drain Terminal. Can be an input or output.", 3 S1 "Source Terminal. Can be an input or output.", 4 VSS (power) "Most Negative Power Supply Potential in Dual Supplies. In single supply applications, it may be connected to GND.", 5 GND (power) "Ground (0 V) Reference.", 6 S4 "Source Terminal. Can be an input or output.", 7 D4 "Drain Terminal. Can be an input or output.", 8 IN4 (in) "Logic Control Input.", 9 IN3 (in) "Logic Control Input.", 10 D3 "Drain Terminal. Can be an input or output.", 11 S3 "Source Terminal. Can be an input or output.", 12 VL (power) "Logic Power Supply (5 V).", 13 VDD (power) "Most Positive Power Supply Potential.", 14 S2 "Source Terminal. Can be an input or output.", 15 D2 "Drain Terminal. Can be an input or output.", 16 IN2 (in) "Logic Control Input."

## ADG411BRUZ-REEL
designator U?
LC2MOS Precision Quad SPST Switches, 25 Ohm Ron, 16-pin SOP (RU-16), Reel; Manufacturer: Analog Devices; PartNumber: ADG411BRUZ-REEL; # Sw Functions: 4; Max Neg Supply: -16.5V; Max Pos Supply: +16.5V; Ron (ohms): 25, 40; t ON: 110ns, 175ns; DatasheetVersion: Rev. D; PackageVersion: Nov-02; PackageReference: RU-16; PackageDescription: 16-Pin Thin Shrink Small Outline Package, Body 5 x 4.4 mm, Pitch 0.65 mm; Supplier 1: Digi-Key; Supplier Part Number 1: ADG411BRUZ-REEL-ND; Supplier 2: Newark; Supplier Part Number 2: 59K1244; Supplier 3: Mouser; Supplier Part Number 3: 584-ADG411BRUZ-R; Configuration: SPST; Packing: Reel; Mounting Technology: Surface Mount; Code_JEDEC: MO-153AB; ComponentLink1Description: Manufacturer URL; ComponentLink1URL: http://www.analog.com/en/index.html; ComponentLink2Description: Datasheet; ComponentLink2URL: http://www.analog.com/static/imported-files/data_sheets/ADG411_412_413.pdf; ComponentLink3Description: Package Specification; ComponentLink3URL: http:/www.analog.com/static/imported-files/packages/36244347913743854010197452789RU16.pdf
footprint ADI-RU-16_N (SOP, 16-Leads, Body 5x4.4mm, Pitch 0.65mm, IPC Medium Density)
footprint ADI-RU-16_L (SOP, 16-Leads, Body 5x4.4mm, Pitch 0.65mm, IPC High Density)
footprint ADI-RU-16_M (SOP, 16-Leads, Body 5x4.4mm, Pitch 0.65mm, IPC Low Density)
pins: 1 IN1 (in) "Logic Control Input.", 2 D1 "Drain Terminal. Can be an input or output.", 3 S1 "Source Terminal. Can be an input or output.", 4 VSS (power) "Most Negative Power Supply Potential in Dual Supplies. In single supply applications, it may be connected to GND.", 5 GND (power) "Ground (0 V) Reference.", 6 S4 "Source Terminal. Can be an input or output.", 7 D4 "Drain Terminal. Can be an input or output.", 8 IN4 (in) "Logic Control Input.", 9 IN3 (in) "Logic Control Input.", 10 D3 "Drain Terminal. Can be an input or output.", 11 S3 "Source Terminal. Can be an input or output.", 12 VL (power) "Logic Power Supply (5 V).", 13 VDD (power) "Most Positive Power Supply Potential.", 14 S2 "Source Terminal. Can be an input or output.", 15 D2 "Drain Terminal. Can be an input or output.", 16 IN2 (in) "Logic Control Input."

## ADG411BRUZ-REEL7
designator U?
LC2MOS Precision Quad SPST Switches, 25 Ohm Ron, 16-pin SOP (RU-16), Reel; Manufacturer: Analog Devices; PartNumber: ADG411BRUZ-REEL7; # Sw Functions: 4; Max Neg Supply: -16.5V; Max Pos Supply: +16.5V; Ron (ohms): 25, 40; t ON: 110ns, 175ns; DatasheetVersion: Rev. D; PackageVersion: Nov-02; PackageReference: RU-16; PackageDescription: 16-Pin Thin Shrink Small Outline Package, Body 5 x 4.4 mm, Pitch 0.65 mm; Supplier 1: Digi-Key; Supplier Part Number 1: ADG411BRUZ-REEL7TR-ND; Supplier 2: Digi-Key; Supplier Part Number 2: ADG411BRUZ-REEL7CT-ND; Supplier 3: Digi-Key; Supplier Part Number 3: ADG411BRUZ-REEL7DKR-ND; Supplier 4: Newark; Supplier Part Number 4: 59K1245; Supplier 5: Mouser; Supplier Part Number 5: 584-ADG411BRUZ-R7; Configuration: SPST; Packing: Reel; Mounting Technology: Surface Mount; Code_JEDEC: MO-153AB; ComponentLink1Description: Manufacturer URL; ComponentLink1URL: http://www.analog.com/en/index.html; ComponentLink2Description: Datasheet; ComponentLink2URL: http://www.analog.com/static/imported-files/data_sheets/ADG411_412_413.pdf; ComponentLink3Description: Package Specification; ComponentLink3URL: http:/www.analog.com/static/imported-files/packages/36244347913743854010197452789RU16.pdf
footprint ADI-RU-16_N (SOP, 16-Leads, Body 5x4.4mm, Pitch 0.65mm, IPC Medium Density)
footprint ADI-RU-16_L (SOP, 16-Leads, Body 5x4.4mm, Pitch 0.65mm, IPC High Density)
footprint ADI-RU-16_M (SOP, 16-Leads, Body 5x4.4mm, Pitch 0.65mm, IPC Low Density)
pins: 1 IN1 (in) "Logic Control Input.", 2 D1 "Drain Terminal. Can be an input or output.", 3 S1 "Source Terminal. Can be an input or output.", 4 VSS (power) "Most Negative Power Supply Potential in Dual Supplies. In single supply applications, it may be connected to GND.", 5 GND (power) "Ground (0 V) Reference.", 6 S4 "Source Terminal. Can be an input or output.", 7 D4 "Drain Terminal. Can be an input or output.", 8 IN4 (in) "Logic Control Input.", 9 IN3 (in) "Logic Control Input.", 10 D3 "Drain Terminal. Can be an input or output.", 11 S3 "Source Terminal. Can be an input or output.", 12 VL (power) "Logic Power Supply (5 V).", 13 VDD (power) "Most Positive Power Supply Potential.", 14 S2 "Source Terminal. Can be an input or output.", 15 D2 "Drain Terminal. Can be an input or output.", 16 IN2 (in) "Logic Control Input."